# EAGLE library part SRAM-256KX16 (library audioint)
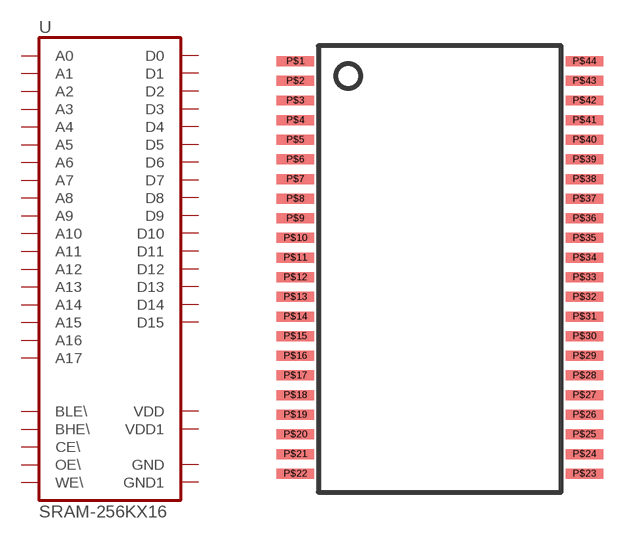
[diagram p6: symbol with the pads of 44-TSSOP2; footprint 44-TSSOP2]

Designator prefix -

## SRAM-256KX1644-TSSOP2  [44-TSSOP2]
P$1  A0  in
P$2  A1  in
P$3  A2  in
P$4  A3  in
P$5  A4  in
P$6  CE\  in
P$7  D0  hiz
P$8  D1  hiz
P$9  D2  hiz
P$10  D3  hiz
P$11  VDD  pwr
P$12  GND  pwr
P$13  D4  hiz
P$14  D5  hiz
P$15  D6  hiz
P$16  D7  hiz
P$17  WE\  in
P$18  A5  in
P$19  A6  in
P$20  A7  in
P$21  A8  in
P$22  A9  in
P$23  A10  in
P$24  A11  in
P$25  A12  in
P$26  A13  in
P$27  A14  in
P$29  D8  hiz
P$30  D9  hiz
P$31  D10  hiz
P$32  D11  hiz
P$33  VDD1  pwr
P$34  GND1  pwr
P$35  D12  hiz
P$36  D13  hiz
P$37  D14  hiz
P$38  D15  hiz
P$39  BLE\  in
P$40  BHE\  in
P$41  OE\  in
P$42  A15  in
P$43  A16  in
P$44  A17  in

## Footprint 44-TSSOP2 (pad centres in mm)
smd 1.524 x 0.406: P$1 -5.892,8.8; P$2 -5.892,8; P$3 -5.892,7.2; P$4 -5.892,6.4; P$5 -5.892,5.6; P$6 -5.892,4.8; P$7 -5.892,4; P$8 -5.892,3.2; P$9 -5.892,2.4; P$10 -5.892,1.6; P$11 -5.892,0.8; P$12 -5.892,0; P$13 -5.892,-0.8; P$14 -5.892,-1.6; P$15 -5.892,-2.4; P$16 -5.892,-3.2; P$17 -5.892,-4; P$18 -5.892,-4.8; P$19 -5.892,-5.6; P$20 -5.892,-6.4; P$21 -5.892,-7.2; P$22 -5.892,-8; P$23 5.892,-8; P$24 5.892,-7.2; P$25 5.892,-6.4; P$26 5.892,-5.6; P$27 5.892,-4.8; P$28 5.892,-4; P$29 5.892,-3.2; P$30 5.892,-2.4; P$31 5.892,-1.6; P$32 5.892,-0.8; P$33 5.892,0; P$34 5.892,0.8; P$35 5.892,1.6; P$36 5.892,2.4; P$37 5.892,3.2; P$38 5.892,4; P$39 5.892,4.8; P$40 5.892,5.6; P$41 5.892,6.4; P$42 5.892,7.2; P$43 5.892,8; P$44 5.892,8.8